# EAGLE library part AP1509 (library IC)
150KHz,2A PWM Buck DC/DC Converter
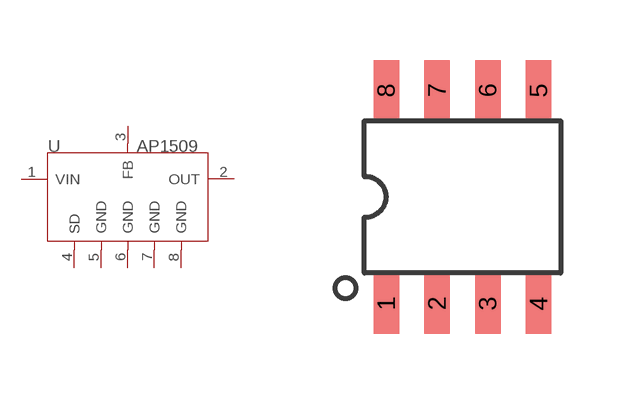
[diagram p55: symbol with the pads of SOP8; footprint SOP8]

Designator prefix U

## AP1509'SOP-8L'  [SOP8]
1  VIN  in
2  OUT  out
3  FB  in
4  SD
5  GND  sup
6  GND  sup
7  GND  sup
8  GND  sup

## Footprint SOP8 (pad centres in mm)
SMALL OUTLINE PACKAGE
smd 0.635 x 1.524: 1 -1.905,-2.667; 2 -0.635,-2.667; 3 0.635,-2.667; 4 1.905,-2.667; 5 1.905,2.667; 6 0.635,2.667; 7 -0.635,2.667; 8 -1.905,2.667